# EAGLE library part FT232RQ (library ftdichip-6)
USB UART 4th Generation USB UART (USB <-> Serial) Controller
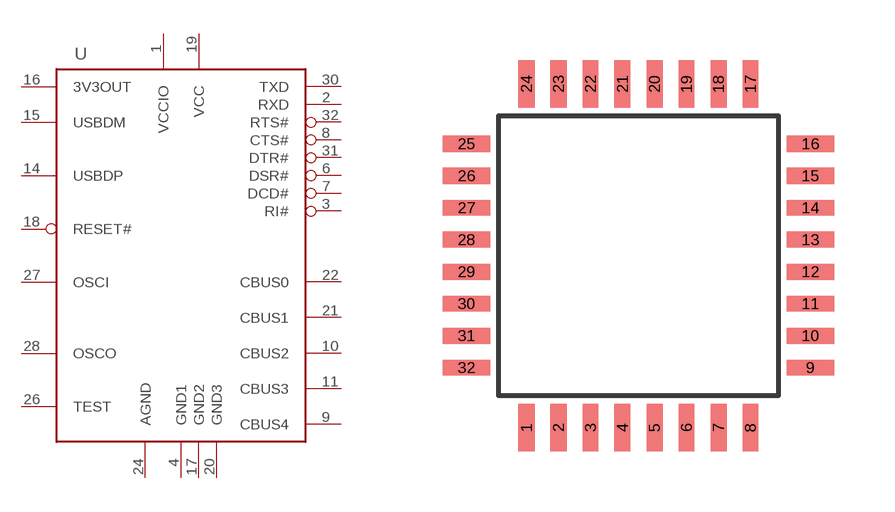
[diagram p4: symbol with the pads of LQFP32; footprint LQFP32]

Designator prefix U

## FT232RQ  [LQFP32]
1  VCCIO  pwr
2  RXD  in
3  RI#  in
4  GND1  pwr
6  DSR#  in
7  DCD#  in
8  CTS#  in
9  CBUS4
10  CBUS2
11  CBUS3
14  USBDP
15  USBDM
16  3V3OUT  out
17  GND2  pwr
18  RESET#  in
19  VCC  pwr
20  GND3  pwr
21  CBUS1
22  CBUS0
24  AGND  pwr
26  TEST  in
27  OSCI  in
28  OSCO  out
30  TXD  out
31  DTR#  out
32  RTS#  out

## Footprint LQFP32 (pad centres in mm)
LQFP-32 package 7x7 mm case, 0.8 mm lead pitch
smd 0.4 x 1.2: 1 -2.8,-4.3; 2 -2,-4.3; 3 -1.2,-4.3; 4 -0.4,-4.3; 5 0.4,-4.3; 6 1.2,-4.3; 7 2,-4.3; 8 2.8,-4.3; 17 2.8,4.3; 18 2,4.3; 19 1.2,4.3; 20 0.4,4.3; 21 -0.4,4.3; 22 -1.2,4.3; 23 -2,4.3; 24 -2.8,4.3
smd 1.2 x 0.4: 9 4.3,-2.8; 10 4.3,-2; 11 4.3,-1.2; 12 4.3,-0.4; 13 4.3,0.4; 14 4.3,1.2; 15 4.3,2; 16 4.3,2.8; 25 -4.3,2.8; 26 -4.3,2; 27 -4.3,1.2; 28 -4.3,0.4; 29 -4.3,-0.4; 30 -4.3,-1.2; 31 -4.3,-2; 32 -4.3,-2.8